# EAGLE library part BTM-240/250 (library rayson__btm_bluetooth_modul)
BC03-mm Class1 Stereo Module The module is a Max.18dBm( Class1 ) module. Bluetooth standard Ver. 2.0 conformity. Low current consumption 3.0V or 1.8V operation Embedded Kalimba DSP Co-Processor Integrated 16-bit Stereo Audio CODEC Scatternet Support Interface: USB,UART&PCM(for voice CODEC) Support Digital Audio Bus : I2S or SPDIF Headset/Handsfree firmware is available A2DP/AVRCP profile support RoHS compliant Small outline. 16 x 14 x 2.0 mm
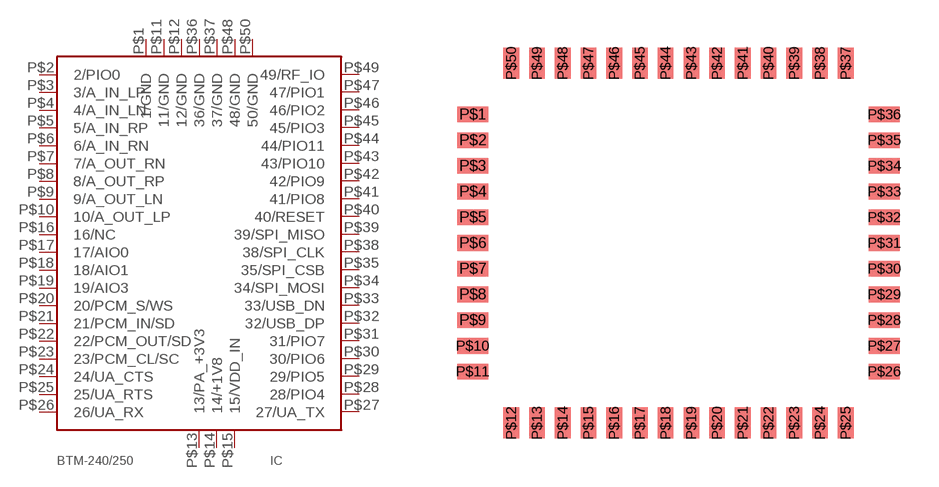
[diagram p9: symbol with the pads of BTM-240/250; footprint BTM-240/250]

Designator prefix IC

## BTM-240/250  [BTM-240/250]
P$1  1/GND  pwr
P$2  2/PIO0
P$3  3/A_IN_LP  in
P$4  4/A_IN_LN  in
P$5  5/A_IN_RP  in
P$6  6/A_IN_RN  in
P$7  7/A_OUT_RN  out
P$8  8/A_OUT_RP  out
P$9  9/A_OUT_LN  out
P$10  10/A_OUT_LP  out
P$11  11/GND  pwr
P$12  12/GND  pwr
P$13  13/PA_+3V3  pwr
P$14  14/+1V8  pwr
P$15  15/VDD_IN  pwr
P$16  16/NC  nc
P$17  17/AIO0
P$18  18/AIO1
P$19  19/AIO3
P$20  20/PCM_S/WS
P$21  21/PCM_IN/SD  in
P$22  22/PCM_OUT/SD  out
P$23  23/PCM_CL/SC
P$24  24/UA_CTS  in
P$25  25/UA_RTS  out
P$26  26/UA_RX  in
P$27  27/UA_TX  out
P$28  28/PIO4
P$29  29/PIO5
P$30  30/PIO6
P$31  31/PIO7
P$32  32/USB_DP
P$33  33/USB_DN
P$34  34/SPI_MOSI  in
P$35  35/SPI_CSB  in
P$36  36/GND  pwr
P$37  37/GND  pwr
P$38  38/SPI_CLK  in
P$39  39/SPI_MISO  out
P$40  40/RESET  in
P$41  41/PIO8
P$42  42/PIO9
P$43  43/PIO10
P$44  44/PIO11
P$45  45/PIO3
P$46  46/PIO2
P$47  47/PIO1
P$48  48/GND  pwr
P$49  49/RF_IO  in
P$50  50/GND  pwr

## Footprint BTM-240/250 (pad centres in mm)
smd 1.21 x 0.61: P$1 -8,5; P$2 -8,4; P$3 -8,3; P$4 -8,2; P$5 -8,1; P$6 -8,0; P$7 -8,-1; P$8 -8,-2; P$9 -8,-3; P$10 -8,-4; P$11 -8,-5; P$26 8,-5; P$27 8,-4; P$28 8,-3; P$29 8,-2; P$30 8,-1; P$31 8,0; P$32 8,1; P$33 8,2; P$34 8,3; P$35 8,4; P$36 8,5
smd 0.61 x 1.21: P$12 -6.5,-7; P$13 -5.5,-7; P$14 -4.5,-7; P$15 -3.5,-7; P$16 -2.5,-7; P$17 -1.5,-7; P$18 -0.5,-7; P$19 0.5,-7; P$20 1.5,-7; P$21 2.5,-7; P$22 3.5,-7; P$23 4.5,-7; P$24 5.5,-7; P$25 6.5,-7; P$37 6.5,7; P$38 5.5,7; P$39 4.5,7; P$40 3.5,7; P$41 2.5,7; P$42 1.5,7; P$43 0.5,7; P$44 -0.5,7; P$45 -1.5,7; P$46 -2.5,7; P$47 -3.5,7; P$48 -4.5,7; P$49 -5.5,7; P$50 -6.5,7